# EAGLE library part 74HC4053 (library thanics_robotics)
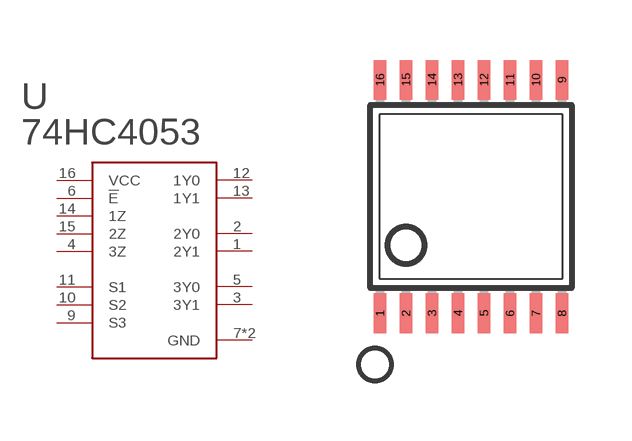
[diagram p39: symbol with the pads of TSSOP16; footprint TSSOP16]

Designator prefix -

## 74HC4053  [TSSOP16]
1  2Y1
2  2Y0
3  3Y1
4  3Z
5  3Y0
6  !E
7  GND
8  GND
9  S3
10  S2
11  S1
12  1Y0
13  1Y1
14  1Z
15  2Z
16  VCC

## Footprint TSSOP16 (pad centres in mm)
Thin Shrink Small Outline Plastic 16 MAX3223-MAX3243.pdf
smd 0.305 x 0.991: 1 -2.275,-2.918; 2 -1.625,-2.918; 3 -0.975,-2.918; 4 -0.325,-2.918; 5 0.325,-2.918; 6 0.975,-2.918; 7 1.625,-2.918; 8 2.275,-2.918; 9 2.275,2.918; 10 1.625,2.918; 11 0.975,2.918; 12 0.325,2.918; 13 -0.325,2.918; 14 -0.975,2.918; 15 -1.625,2.918; 16 -2.275,2.918